# Altium footprint library SparkFun-FreqCtrl.PCBLIB: 11 footprints
Each footprint in its own frame and in the unit in brackets; x right, y up, seen from the top. Pads: shape width x height; smd on the part's side, far side on the other; paste and mask are expansions set on the pad; w line width, h text height; cw(c..) or ccw(c..) is an arc to the next point about the centre after c.
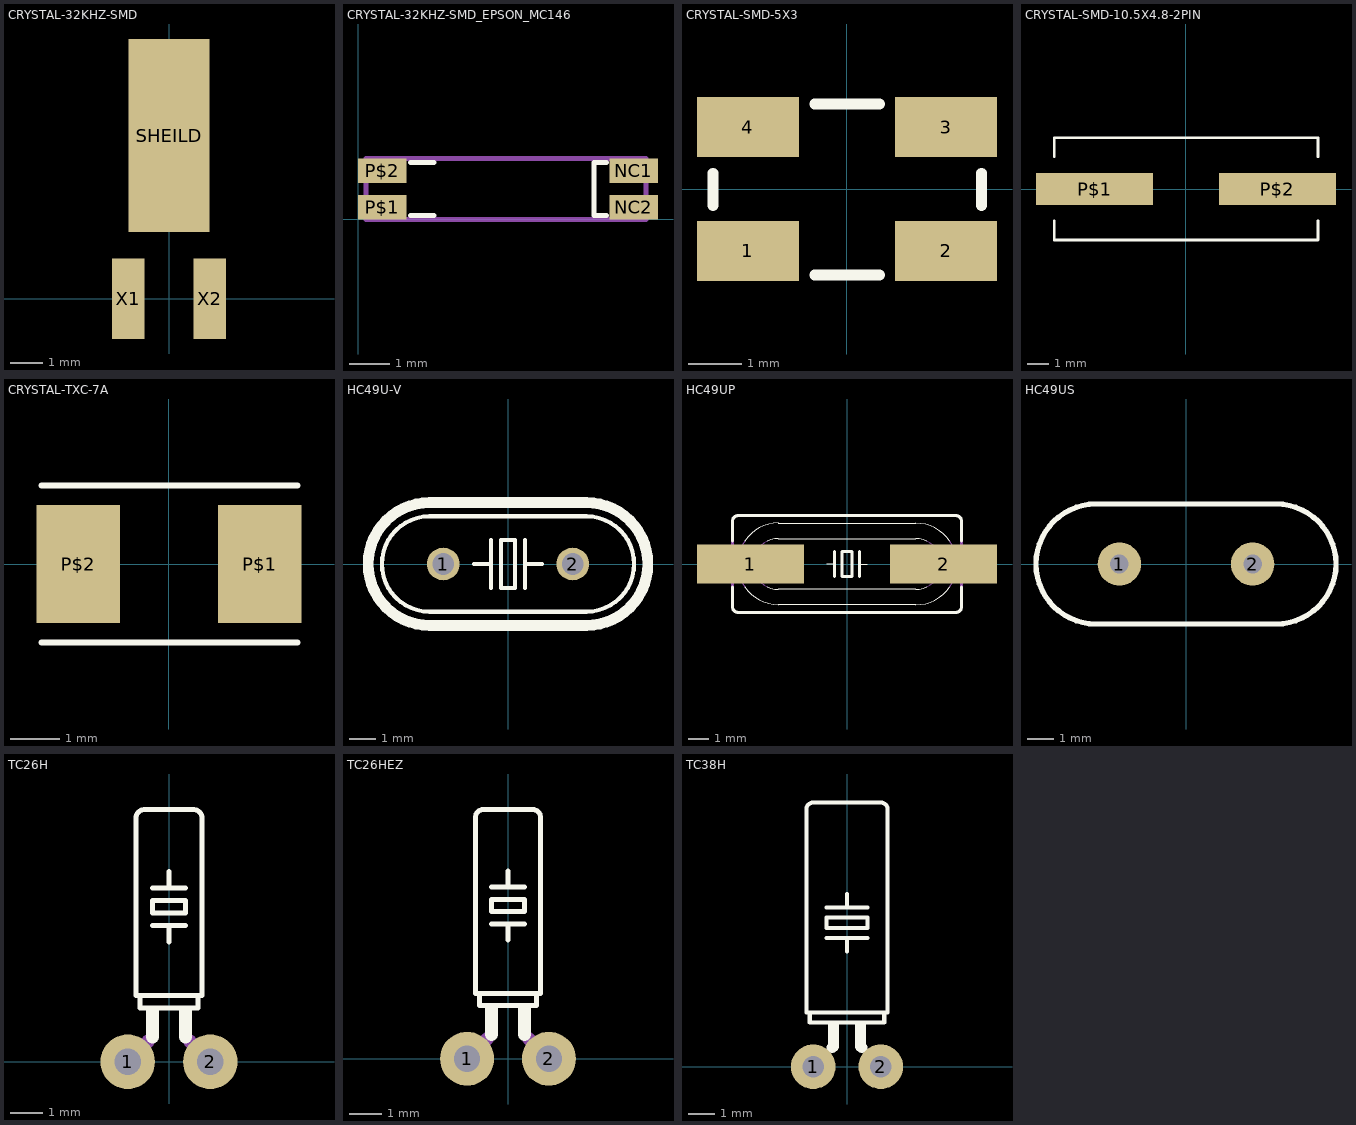
[diagram p0: the footprints below, top view; thin cyan lines are the x and y axes]

## CRYSTAL-32KHZ-SMD [mil]
pads (3):
  rect 99x237 smd: SHEILD(0,200)
  rect 40x99 smd: X1(-50,0) X2(50,0)

## CRYSTAL-32KHZ-SMD_EPSON_MC146 [mil]
pads (4):
  rect 48x24 smd: NC1(272,48) NC2(272,12) P$1(24,12) P$2(24,48)
Top Overlay:
  lines w5: 52,4 75,4 ; 52,56 75,56 ; 245,4 233,4 233,56 245,56
Mechanical 16:
  lines w5: 8,0 284,0 284,60 8,60 8,0

## CRYSTAL-SMD-5X3 [mil]
pads (4):
  rect 75x44 smd: 1(-72.83,-45.28) 2(73,-45.28) 3(73,46) 4(-72.83,46)
Top Overlay:
  lines w8: -98.43,-11.81 -98.43,12 ; -23.62,-62.99 24,-62.99 ; -23.62,63 24,63 ; 99,-11.81 99,12

## CRYSTAL-SMD-10.5X4.8-2PIN [mil]
pads (2):
  rect 217x60 smd: P$1(-169.29,0) P$2(170,0)
Top Overlay:
  lines w5: -244.09,-59.06 -244.09,-94.49 245,-94.49 245,-59.06 ; -244.09,60 -244.09,95 245,95 245,60

## CRYSTAL-TXC-7A [mil]
pads (2):
  rect 67x95 smd: P$1(73,0) P$2(-72.83,0)
Top Overlay:
  lines w5: -102.36,-62.99 103,-62.99 ; -102.36,63 103,63

## HC49U-V [mil]
pads (2):
  round 48 hole 32: 1(-95,0) 2(95,0)
Top Overlay:
  lines w6: -50,0 -25,0 ; -25,-35 -25,0 ; -25,35 -25,0 ; 25,-35 25,0 ; 25,35 25,0 ; 50,0 25,0 ; -115,-70 115,-70 ccw(c115,0) 115,70 -115,70 ccw(c-115,0) -115,-70 ; -10,-35 10,-35 10,35 -10,35 -10,-35
  lines w16: -115,-90 115,-90 ccw(c115,0) 115,90 -115,90 ccw(c-115,0) -115,-90
Via Holes:
  rectangle: -150,-110 150,110
  rectangle: -170,-100 -150,100
  rectangle: -190,-90 -170,90
  rectangle: -210,-70 -190,70
  rectangle: -220,-50 -210,40
  rectangle: 150,-100 170,100
  rectangle: 170,-90 190,90
  rectangle: 190,-70 210,70
  rectangle: 210,-40 220,40

## HC49UP [mil]
pads (2):
  rect 210x76 smd: 1(-190,0) 2(190,0)
Top Overlay:
  lines w2: -201.15,-45 ccw(c-135,0) -135,-80 135,-80 ccw(c135.42,0.81) 202,-45 ; -201.15,45 cw(c-134.06,0.5) -135,81 ; -156.8,-45 ccw(c-135,0) -135,-50 135,-50 ccw(c135.1,0.45) 157,-45 ; -156.8,45 cw(c-135,0) -135,50 135,50 cw(c135.1,-0.45) 157,45 ; -135,80 135,80 cw(c135.43,-0.81) 202,45 ; -40,0 -25,0 ; 25,0 40,0
  lines w6: -225,-45 -225,-85 ccw(c-215,-85) -215,-95 215,-95 ccw(c215,-85) 225,-85 225,-45 ; -225,45 -225,85 cw(c-215,85) -215,95 215,95 cw(c215,85) 225,85 225,45 ; -25,-25 -25,0 -25,25 ; 25,-25 25,0 25,25 ; -10,-25 -10,25 10,25 10,-25 -10,-25
Mechanical 16:
  lines w2: -201.15,-45 cw(c-135,0) -201.15,45 ; -156.8,-45 cw(c-135,0) -156.8,45 ; 157,-45 ccw(c135.2,0) 157,45 ; 202,-45 ccw(c135.85,0) 202,45
  lines w6: -225,-45 -225,-15 ; -225,45 -225,15 ; 225,-45 225,45 ; 225,-15 255,-15 255,15 225,15 ; -225,-15 -225,15 ; -225,-15 -255,-15 -255,15 -225,15
Via Holes:
  rectangle: -260,-120 260,120

## HC49US [mil]
pads (2):
  round 65 hole 28: 1(-100,0) 2(100,0)
Top Overlay:
  lines w8: -135,-90 135,-90 ccw(c135,0) 135,90 -135,90 ccw(c-135,0) -135,-90

## TC26H [mil]
pads (2):
  round 66 hole 32: 1(-50,0) 2(50,0)
Top Overlay:
  rectangle: 12,40 28,63
  rectangle: -28,40 -12,63
  lines w6: -20,165 0,165 ; -20,210 0,210 ; 0,145 0,165 ; 0,230 0,210 ; 20,165 0,165 ; 20,210 0,210 ; -35,80 -35,65 35,65 35,80 ; -35,80 -40,80 -40,295 cw(c-30,295) -30,305 30,305 cw(c30,295) 40,295 40,80 35,80 ; -35,80 35,80 ; -20,180 -20,195 20,195 20,180 -20,180
  lines w16: -20,30 -20,50 ; 20,30 20,45
Mechanical 16:
  lines w16: -50,0 -25,25 ; 25,25 50,0
Via Holes:
  rectangle: -70,30 70,330

## TC26HEZ [mil]
pads (2):
  round 66 hole 32: 1(-50,0) 2(50,0)
Top Overlay:
  rectangle: 12,40 28,63
  rectangle: -28,40 -12,63
  lines w6: -20,165 0,165 ; -20,210 0,210 ; 0,145 0,165 ; 0,230 0,210 ; 20,165 0,165 ; 20,210 0,210 ; -35,80 -35,65 35,65 35,80 ; -35,80 -40,80 -40,295 cw(c-30,295) -30,305 30,305 cw(c30,295) 40,295 40,80 35,80 ; -35,80 35,80 ; -20,180 -20,195 20,195 20,180 -20,180
  lines w16: -20,30 -20,50 ; 20,30 20,45
Top Solder:
  circle w0: c-50,0 r20
  circle w0: c50,0 r20
Bottom Solder:
  circle w0: c-50,0 r37
  circle w0: c50,0 r37
Mechanical 16:
  lines w16: -50,0 -25,25 ; 25,25 50,0
Via Holes:
  rectangle: -70,30 70,330

## TC38H [mil]
pads (2):
  round 66 hole 32: 1(-50,0) 2(50,0)
Top Overlay:
  rectangle: 12,40 28,63
  rectangle: -28,40 -12,63
  lines w6: -30,190 0,190 ; -30,235 0,235 ; 0,170 0,190 ; 0,255 0,235 ; 30,190 0,190 ; 30,235 0,235 ; -55,80 -55,65 55,65 55,80 ; -55,80 -60,80 -60,380 cw(c-50,380) -50,390 50,390 cw(c50,380) 60,380 60,80 55,80 ; -55,80 55,80 ; -30,205 -30,220 30,220 30,205 -30,205
  lines w16: -22,28 -20,30 -20,40 ; 20,45 20,30 22,28
Mechanical 16:
  lines w6: -50,0 -25,25 ; 25,25 50,0
Via Holes:
  rectangle: -70,40 70,410